# Altium footprint library CNC Machine Breakout.PcbLib: 5 footprints
Each footprint in its own frame and in the unit in brackets; x right, y up, seen from the top. Pads: shape width x height; smd on the part's side, far side on the other; paste and mask are expansions set on the pad; w line width, h text height; cw(c..) or ccw(c..) is an arc to the next point about the centre after c.
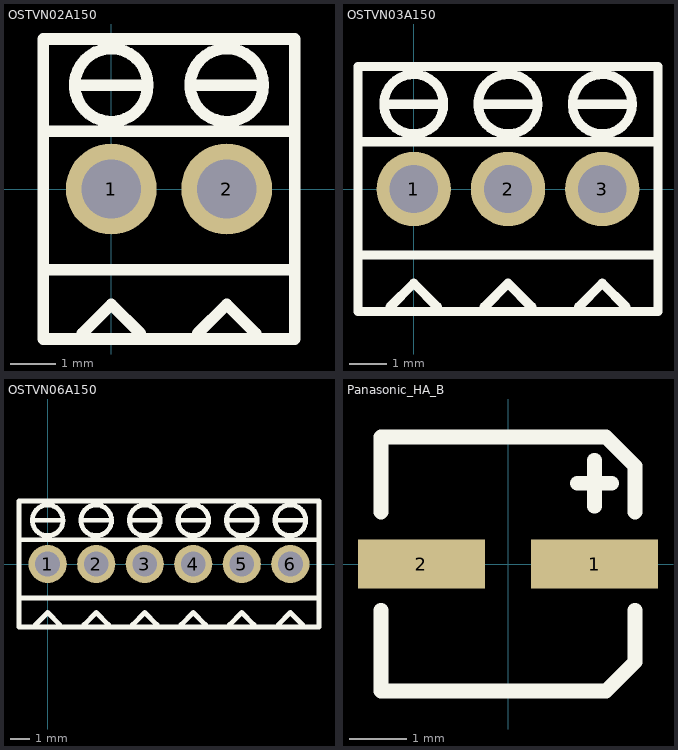
[diagram p0: the footprints below, top view; thin cyan lines are the x and y axes]

## OSTVN02A150 [mm]
pads (2):
  round 2 hole 1.3: 1(0,0) 2(2.54,0)
Top Overlay:
  circle w0.254: c0,2.286 r0.803
  circle w0.254: c2.54,2.286 r0.803
  lines w0.254: -1.5,-1.778 4.04,-1.778 ; -1.5,1.27 4.04,1.27 ; -0.762,2.286 0.803,2.286 ; -0.635,-3.175 0,-2.54 0.635,-3.175 0.635,-3.3 ; 1.268,-3.3 1.27,-3.3 ; 1.778,2.286 3.343,2.286 ; 1.905,-3.3 1.905,-3.175 2.54,-2.54 3.175,-3.175 ; 4,-3.3 4.04,-3.26 4.04,0 4.04,3.26 ; 4.04,-3.3 -1.5,-3.3 -1.5,0 -1.5,3.3 4.04,3.3

## OSTVN03A150 [mm]
pads (3):
  round 2 hole 1.3: 1(0,0) 2(2.54,0) 3(5.08,0)
Top Overlay:
  circle w0.254: c5.08,2.286 r0.803
  circle w0.254: c2.54,2.286 r0.803
  circle w0.254: c0,2.286 r0.803
  lines w0.254: -1.5,-1.778 6.58,-1.778 ; -1.5,1.27 6.5,1.27 ; -0.762,2.286 0.803,2.286 ; -0.635,-3.175 0,-2.54 0.635,-3.175 0.635,-3.3 ; 1.268,-3.3 1.27,-3.3 ; 1.778,2.286 3.343,2.286 ; 1.905,-3.3 1.905,-3.175 2.54,-2.54 3.175,-3.175 ; 4.318,2.286 5.883,2.286 ; 4.445,-3.3 4.445,-3.175 5.08,-2.54 5.715,-3.175 5.715,-3.3 ; 6.58,3.22 6.58,0 6.58,-3.3 -1.5,-3.3 -1.5,0 -1.5,3.3 6.58,3.3

## OSTVN06A150 [mm] "On-Shore Technology 2.54mm Screw Terminal"
pads (6):
  round 2 hole 1.3: 1(0,0) 2(2.54,0) 3(5.08,0) 4(7.62,0) 5(10.16,0) 6(12.7,0)
Top Overlay:
  circle w0.254: c0,2.286 r0.803
  circle w0.254: c2.54,2.286 r0.803
  circle w0.254: c5.08,2.286 r0.803
  circle w0.254: c7.62,2.286 r0.803
  circle w0.254: c10.16,2.286 r0.803
  circle w0.254: c12.7,2.286 r0.803
  lines w0.254: -1.5,-1.778 14.2,-1.778 ; -1.5,1.27 14.2,1.27 ; -0.762,2.286 0.803,2.286 ; -0.635,-3.175 0,-2.54 0.635,-3.175 0.635,-3.3 ; 1.268,-3.3 1.27,-3.3 ; 1.778,2.286 3.343,2.286 ; 1.905,-3.3 1.905,-3.175 2.54,-2.54 3.175,-3.175 ; 4.318,2.286 5.883,2.286 ; 4.445,-3.3 4.445,-3.175 5.08,-2.54 5.715,-3.175 5.715,-3.3 ; 6.858,2.286 8.423,2.286 ; 6.985,-3.175 7.62,-2.54 8.255,-3.175 ; 9.398,2.286 10.963,2.286 ; 9.525,-3.175 10.16,-2.54 10.795,-3.175 10.795,-3.3 ; 11.938,2.286 13.503,2.286 ; 12.065,-3.3 12.065,-3.175 12.7,-2.54 13.335,-3.175 13.335,-3.3 ; -1.5,-3.3 -1.5,0 -1.5,3.3 14.2,3.3 14.2,0 14.2,-3.3 -1.5,-3.3

## Panasonic_HA_B [mm]
pads (2):
  rect 2.2x0.85 smd: 1(1.5,0) 2(-1.5,0)
Top Overlay:
  lines w0.254: -2.2,-0.8 -2.2,-2.2 1.7,-2.2 2.2,-1.7 2.2,-0.8 ; -2.2,0.9 -2.2,2.2 1.7,2.2 2.2,1.7 2.2,0.9 ; 1.2,1.4 1.8,1.4 ; 1.5,1 1.5,1.8

## PCBComponent_1 [mm]